# EAGLE library part PP140-80CBS2.50X3.50 (library NewSDR)
LeaderTech 2.50" x 3.50" Shield
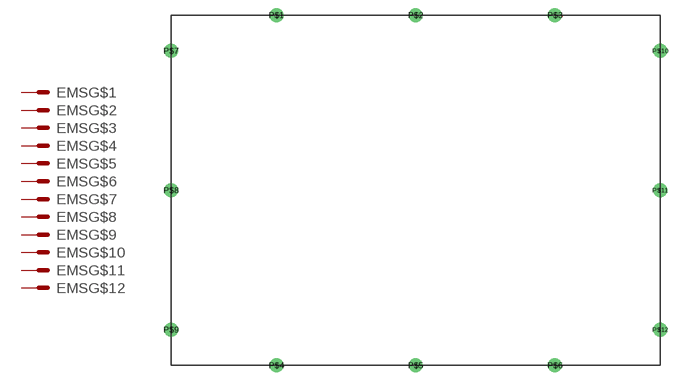
[diagram p63: symbol with the pads of PP140-80CBS2.50X3.50; footprint PP140-80CBS2.50X3.50]

Designator prefix EMS; gates G$1=MS G$2=MS G$3=MS G$4=MS G$5=MS G$6=MS G$7=MS G$8=MS G$9=MS G$10=MS G$11=MS G$12=MS

## PP140-80CBS2.50X3.50  [PP140-80CBS2.50X3.50]
P$1  G$1:MS  pas
P$2  G$2:MS  pas
P$3  G$3:MS  pas
P$4  G$4:MS  pas
P$5  G$5:MS  pas
P$6  G$6:MS  pas
P$7  G$7:MS  pas
P$8  G$8:MS  pas
P$9  G$9:MS  pas
P$10  G$10:MS  pas
P$11  G$11:MS  pas
P$12  G$12:MS  pas

## Footprint PP140-80CBS2.50X3.50 (pad centres in mm)
drill 1.27 pad 2.54: P$1 19.202,0; P$2 44.602,0; P$3 70.002,0; P$4 19.202,-63.805; P$5 44.602,-63.805; P$6 70.002,-63.805; P$7 0,-6.502; P$8 0,-31.902; P$9 0,-57.302; P$10 89.205,-6.502; P$11 89.205,-31.902; P$12 89.205,-57.302